# Altium footprint library CAPE830X690N.PcbLib: 1 footprints
Each footprint in its own frame and in the unit in brackets; x right, y up, seen from the top. Pads: shape width x height; smd on the part's side, far side on the other; paste and mask are expansions set on the pad; w line width, h text height; cw(c..) or ccw(c..) is an arc to the next point about the centre after c.
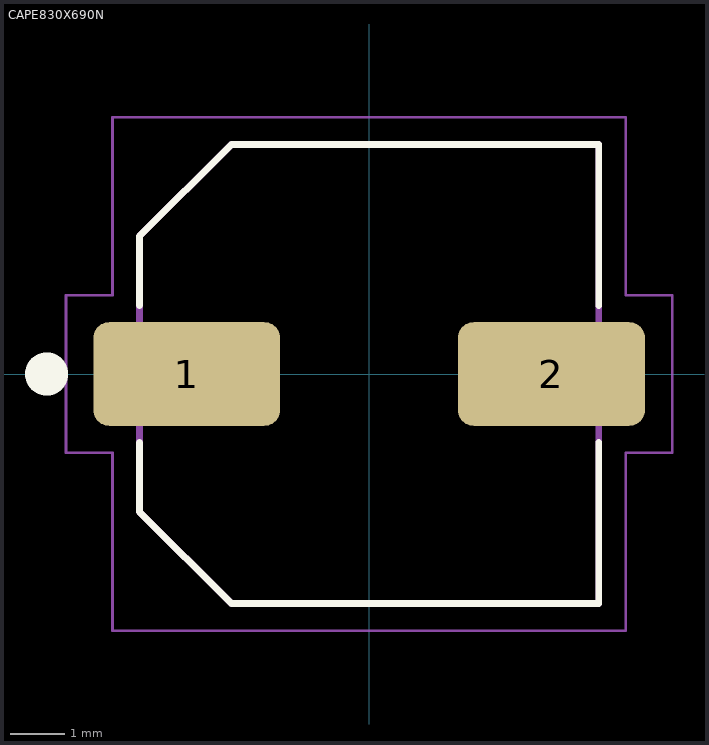
[diagram p0: the footprint, top view; thin cyan lines are the x and y axes]

## CAPE830X690N [mm]
pads (2):
  rrect30% 3.46x1.92 smd: 1(-3.375,0) 2(3.375,0)
Top Overlay:
  circle w0.4: c-5.969,0 r0.2
  lines w0.127: -4.25,-1.27 -4.25,-2.55 -2.55,-4.25 4.25,-4.25 4.25,-1.27 ; -4.25,1.27 -4.25,2.55 -2.55,4.25 4.25,4.25 4.25,1.27
Mechanical 13:
  lines w0.127: -4.25,-2.55 -2.55,-4.25 4.25,-4.25 4.25,4.25 -2.55,4.25 -4.25,2.55 -4.25,-2.55
Mechanical 15:
  lines w0.05: -5.61,-1.46 -5.61,1.46 -4.75,1.46 -4.75,4.75 4.75,4.75 4.75,1.46 5.61,1.46 5.61,-1.46 4.75,-1.46 4.75,-4.75 -4.75,-4.75 -4.75,-1.46 -5.61,-1.46